# Altium schematic symbol library Schlib1.SchLib: 2 symbols
Pins are listed as number, name and electrical type; pins without a type are passive.

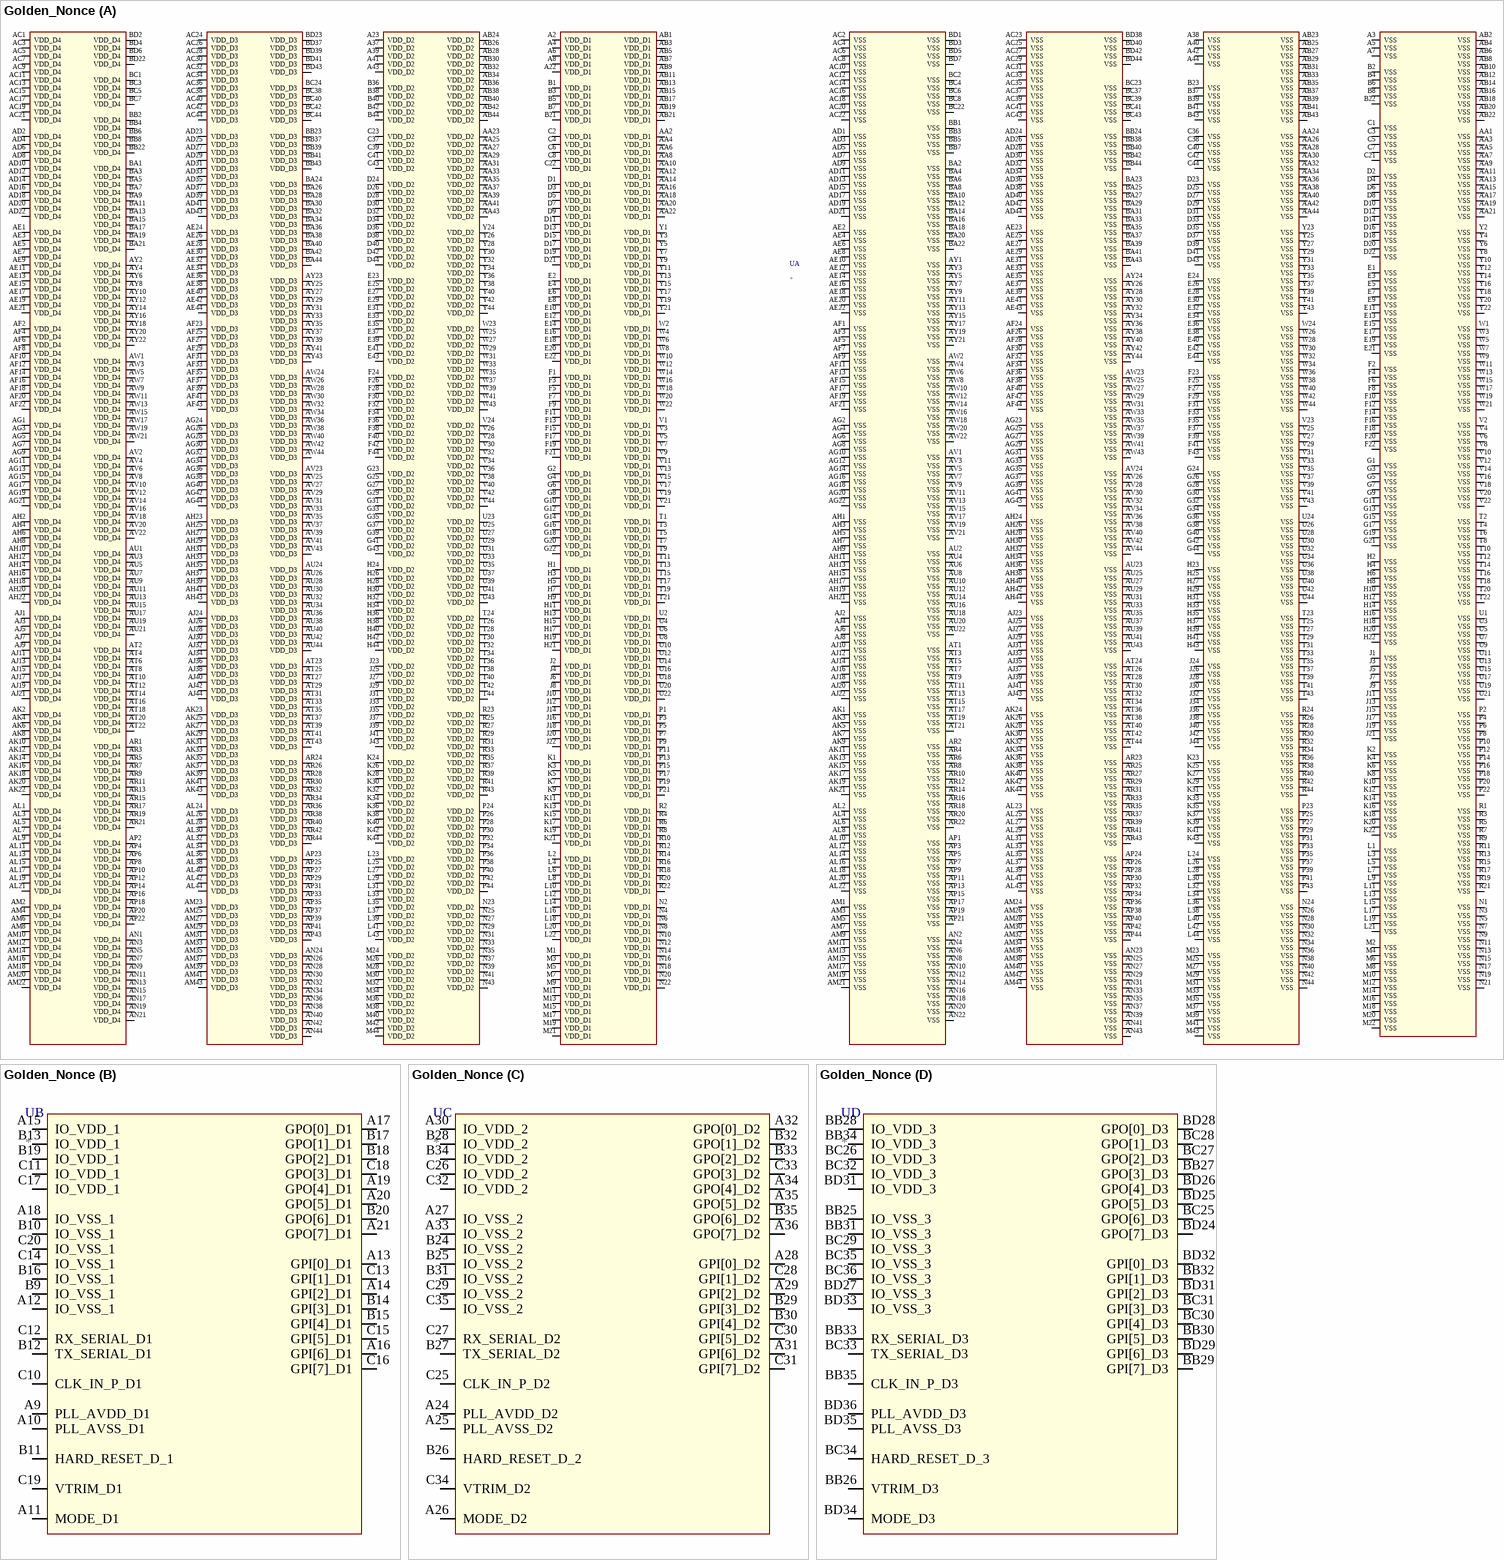
[diagram p0: symbol Golden_Nonce]

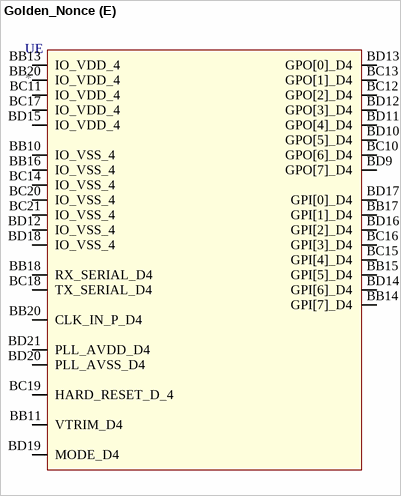
[diagram p1: symbol Golden_Nonce]

## Golden_Nonce
designator U
part A pins: A2 VDD_D1, A3 VSS, A4 VDD_D1, A5 VSS, A6 VDD_D1, A7 VSS, A8 VDD_D1, A22 VDD_D1, A23 VDD_D2, A37 VDD_D2, A38 VSS, A39 VDD_D2, A40 VSS, A41 VDD_D2, A42 VSS, A43 VDD_D2, A44 VSS, AA1 VSS, AA2 VDD_D1, AA3 VSS, AA4 VDD_D1, AA5 VSS, AA6 VDD_D1, AA7 VSS, AA8 VDD_D1, AA9 VSS, AA10 VDD_D1, AA11 VSS, AA12 VDD_D1, AA13 VSS, AA14 VDD_D1, AA15 VSS, AA16 VDD_D1, AA17 VSS, AA18 VDD_D1, AA19 VSS, AA20 VDD_D1, AA21 VSS, AA22 VDD_D1, AA23 VDD_D2, AA24 VSS, AA25 VDD_D2, AA26 VSS, AA27 VDD_D2, AA28 VSS, AA29 VDD_D2, AA30 VSS, AA31 VDD_D2, AA32 VSS, AA33 VDD_D2, AA34 VSS, AA35 VDD_D2, AA36 VSS, AA37 VDD_D2, AA38 VSS, AA39 VDD_D2, AA40 VSS, AA41 VDD_D2, AA42 VSS, AA43 VDD_D2, AA44 VSS, AB1 VDD_D1, AB2 VSS, AB3 VDD_D1, AB4 VSS, AB5 VDD_D1, AB6 VSS, AB7 VDD_D1, AB8 VSS, AB9 VDD_D1, AB10 VSS, AB11 VDD_D1, AB12 VSS, AB13 VDD_D1, AB14 VSS, AB15 VDD_D1, AB16 VSS, AB17 VDD_D1, AB18 VSS, AB19 VDD_D1, AB20 VSS, AB21 VDD_D1, AB22 VSS, AB23 VSS, AB24 VDD_D2, AB25 VSS, AB26 VDD_D2, AB27 VSS, AB28 VDD_D2, AB29 VSS, AB30 VDD_D2, AB31 VSS, AB32 VDD_D2, AB33 VSS, AB34 VDD_D2, AB35 VSS, AB36 VDD_D2, AB37 VSS, AB38 VDD_D2, AB39 VSS, AB40 VDD_D2, AB41 VSS, AB42 VDD_D2, AB43 VSS, AB44 VDD_D2, AC1 VDD_D4, AC2 VSS, AC3 VDD_D4, AC4 VSS, AC5 VDD_D4, AC6 VSS, AC7 VDD_D4, AC8 VSS, AC9 VDD_D4, AC10 VSS, AC11 VDD_D4, AC12 VSS, AC13 VDD_D4, AC14 VSS, AC15 VDD_D4, AC16 VSS, AC17 VDD_D4, AC18 VSS, AC19 VDD_D4, AC20 VSS, AC21 VDD_D4, AC22 VSS, AC23 VSS, AC24 VDD_D3, AC25 VSS, AC26 VDD_D3, AC27 VSS, AC28 VDD_D3, AC29 VSS, AC30 VDD_D3, AC31 VSS, AC32 VDD_D3, AC33 VSS, AC34 VDD_D3, AC35 VSS, AC36 VDD_D3, AC37 VSS, AC38 VDD_D3, AC39 VSS, AC40 VDD_D3, AC41 VSS, AC42 VDD_D3, AC43 VSS, AC44 VDD_D3, AD1 VSS, AD2 VDD_D4, AD3 VSS, AD4 VDD_D4, AD5 VSS, AD6 VDD_D4, AD7 VSS, AD8 VDD_D4, AD9 VSS, AD10 VDD_D4, AD11 VSS, AD12 VDD_D4, AD13 VSS, AD14 VDD_D4, AD15 VSS, AD16 VDD_D4, AD17 VSS, AD18 VDD_D4, AD19 VSS, AD20 VDD_D4, AD21 VSS, AD22 VDD_D4, AD23 VDD_D3, AD24 VSS, AD25 VDD_D3, AD26 VSS, AD27 VDD_D3, AD28 VSS, AD29 VDD_D3, AD30 VSS, AD31 VDD_D3, AD32 VSS, AD33 VDD_D3, AD34 VSS, AD35 VDD_D3, AD36 VSS, AD37 VDD_D3, AD38 VSS, AD39 VDD_D3, AD40 VSS, AD41 VDD_D3, AD42 VSS, AD43 VDD_D3, AD44 VSS, AE1 VDD_D4, AE2 VSS, AE3 VDD_D4, AE4 VSS, AE5 VDD_D4, AE6 VSS, AE7 VDD_D4, AE8 VSS, AE9 VDD_D4, AE10 VSS, AE11 VDD_D4, AE12 VSS, AE13 VDD_D4, AE14 VSS, AE15 VDD_D4, AE16 VSS, AE17 VDD_D4, AE18 VSS, AE19 VDD_D4, AE20 VSS, AE21 VDD_D4, AE22 VSS, AE23 VSS, AE24 VDD_D3, AE25 VSS, AE26 VDD_D3, AE27 VSS, AE28 VDD_D3, AE29 VSS, AE30 VDD_D3, AE31 VSS, AE32 VDD_D3, AE33 VSS, AE34 VDD_D3, AE35 VSS, AE36 VDD_D3, AE37 VSS, AE38 VDD_D3, AE39 VSS, AE40 VDD_D3, AE41 VSS, AE42 VDD_D3, AE43 VSS, AE44 VDD_D3, AF1 VSS, AF2 VDD_D4, AF3 VSS, AF4 VDD_D4, AF5 VSS, AF6 VDD_D4, AF7 VSS, AF8 VDD_D4, AF9 VSS, AF10 VDD_D4, AF11 VSS, AF12 VDD_D4, AF13 VSS, AF14 VDD_D4, AF15 VSS, AF16 VDD_D4, AF17 VSS, AF18 VDD_D4, AF19 VSS, AF20 VDD_D4, AF21 VSS, AF22 VDD_D4, AF23 VDD_D3, AF24 VSS, AF25 VDD_D3, AF26 VSS, AF27 VDD_D3, AF28 VSS, AF29 VDD_D3, AF30 VSS, AF31 VDD_D3, AF32 VSS, AF33 VDD_D3, AF34 VSS, AF35 VDD_D3, AF36 VSS, AF37 VDD_D3, AF38 VSS, AF39 VDD_D3, AF40 VSS, AF41 VDD_D3, AF42 VSS, AF43 VDD_D3, AF44 VSS, AG1 VDD_D4, AG2 VSS, AG3 VDD_D4, AG4 VSS, AG5 VDD_D4, AG6 VSS, AG7 VDD_D4, AG8 VSS, AG9 VDD_D4, AG10 VSS, AG11 VDD_D4, AG12 VSS, AG13 VDD_D4, AG14 VSS, AG15 VDD_D4, AG16 VSS, AG17 VDD_D4, AG18 VSS, AG19 VDD_D4, AG20 VSS, AG21 VDD_D4, AG22 VSS, AG23 VSS, AG24 VDD_D3, AG25 VSS, AG26 VDD_D3, AG27 VSS, AG28 VDD_D3, AG29 VSS, AG30 VDD_D3, AG31 VSS, AG32 VDD_D3, AG33 VSS, AG34 VDD_D3, AG35 VSS, AG36 VDD_D3, AG37 VSS, AG38 VDD_D3, AG39 VSS, AG40 VDD_D3, AG41 VSS, AG42 VDD_D3, AG43 VSS, AG44 VDD_D3, AH1 VSS, AH2 VDD_D4, AH3 VSS, AH4 VDD_D4, AH5 VSS, AH6 VDD_D4, AH7 VSS, AH8 VDD_D4, AH9 VSS, AH10 VDD_D4, AH11 VSS, AH12 VDD_D4, AH13 VSS, AH14 VDD_D4, AH15 VSS, AH16 VDD_D4, AH17 VSS, AH18 VDD_D4, AH19 VSS, AH20 VDD_D4, AH21 VSS, AH22 VDD_D4, AH23 VDD_D3, AH24 VSS, AH25 VDD_D3, AH26 VSS, AH27 VDD_D3, AH28 VSS, AH29 VDD_D3, AH30 VSS, AH31 VDD_D3, AH32 VSS, AH33 VDD_D3, AH34 VSS, AH35 VDD_D3, AH36 VSS, AH37 VDD_D3, AH38 VSS, AH39 VDD_D3, AH40 VSS, AH41 VDD_D3, AH42 VSS, AH43 VDD_D3, AH44 VSS, AJ1 VDD_D4, AJ2 VSS, AJ3 VDD_D4, AJ4 VSS, AJ5 VDD_D4, AJ6 VSS, AJ7 VDD_D4, AJ8 VSS, AJ9 VDD_D4, AJ10 VSS, AJ11 VDD_D4, AJ12 VSS, AJ13 VDD_D4, AJ14 VSS, AJ15 VDD_D4, AJ16 VSS, AJ17 VDD_D4, AJ18 VSS, AJ19 VDD_D4, AJ20 VSS, AJ21 VDD_D4, AJ22 VSS, AJ23 VSS, AJ24 VDD_D3, AJ25 VSS, AJ26 VDD_D3, AJ27 VSS, AJ28 VDD_D3, AJ29 VSS, AJ30 VDD_D3, AJ31 VSS, AJ32 VDD_D3, AJ33 VSS, AJ34 VDD_D3, AJ35 VSS, AJ36 VDD_D3, AJ37 VSS, AJ38 VDD_D3, AJ39 VSS, AJ40 VDD_D3, AJ41 VSS, AJ42 VDD_D3, AJ43 VSS, AJ44 VDD_D3, AK1 VSS, AK2 VDD_D4, AK3 VSS, AK4 VDD_D4, AK5 VSS, AK6 VDD_D4, AK7 VSS, AK8 VDD_D4, AK9 VSS, AK10 VDD_D4, AK11 VSS, AK12 VDD_D4, AK13 VSS, AK14 VDD_D4, AK15 VSS, AK16 VDD_D4, AK17 VSS, AK18 VDD_D4, AK19 VSS, AK20 VDD_D4, AK21 VSS, AK22 VDD_D4, AK23 VDD_D3, AK24 VSS, AK25 VDD_D3, AK26 VSS, AK27 VDD_D3, AK28 VSS, AK29 VDD_D3, AK30 VSS, AK31 VDD_D3, AK32 VSS, AK33 VDD_D3, AK34 VSS, AK35 VDD_D3, AK36 VSS, AK37 VDD_D3, AK38 VSS, AK39 VDD_D3, AK40 VSS, AK41 VDD_D3, AK42 VSS, AK43 VDD_D3, AK44 VSS, AL1 VDD_D4, AL2 VSS, AL3 VDD_D4, AL4 VSS, AL5 VDD_D4, AL6 VSS, AL7 VDD_D4, AL8 VSS, AL9 VDD_D4, AL10 VSS, AL11 VDD_D4, AL12 VSS, AL13 VDD_D4, AL14 VSS, AL15 VDD_D4, AL16 VSS, AL17 VDD_D4, AL18 VSS, AL19 VDD_D4, AL20 VSS, AL21 VDD_D4, AL22 VSS, AL23 VSS, AL24 VDD_D3, AL25 VSS, AL26 VDD_D3, AL27 VSS, AL28 VDD_D3, AL29 VSS, AL30 VDD_D3, AL31 VSS, AL32 VDD_D3, AL33 VSS, AL34 VDD_D3, AL35 VSS, AL36 VDD_D3, AL37 VSS, AL38 VDD_D3, AL39 VSS, AL40 VDD_D3, AL41 VSS, AL42 VDD_D3, AL43 VSS, AL44 VDD_D3, AM1 VSS, AM2 VDD_D4, AM3 VSS, AM4 VDD_D4, AM5 VSS, AM6 VDD_D4, AM7 VSS, AM8 VDD_D4, AM9 VSS, AM10 VDD_D4, AM11 VSS, AM12 VDD_D4, AM13 VSS, AM14 VDD_D4, AM15 VSS, AM16 VDD_D4, AM17 VSS, AM18 VDD_D4, AM19 VSS, AM20 VDD_D4, AM21 VSS, AM22 VDD_D4, AM23 VDD_D3, AM24 VSS, AM25 VDD_D3, AM26 VSS, AM27 VDD_D3, AM28 VSS, AM29 VDD_D3, AM30 VSS, AM31 VDD_D3, AM32 VSS, AM33 VDD_D3, AM34 VSS, AM35 VDD_D3, AM36 VSS, AM37 VDD_D3, AM38 VSS, AM39 VDD_D3, AM40 VSS, AM41 VDD_D3, AM42 VSS, AM43 VDD_D3, AM44 VSS, AN1 VDD_D4, AN2 VSS, AN3 VDD_D4, AN4 VSS, AN5 VDD_D4, AN6 VSS, AN7 VDD_D4, AN8 VSS, AN9 VDD_D4, AN10 VSS, AN11 VDD_D4, AN12 VSS, AN13 VDD_D4, AN14 VSS, AN15 VDD_D4, AN16 VSS, AN17 VDD_D4, AN18 VSS, AN19 VDD_D4, AN20 VSS, AN21 VDD_D4, AN22 VSS, AN23 VSS, AN24 VDD_D3, AN25 VSS, AN26 VDD_D3, AN27 VSS, AN28 VDD_D3, AN29 VSS, AN30 VDD_D3, AN31 VSS, AN32 VDD_D3, AN33 VSS, AN34 VDD_D3, AN35 VSS, AN36 VDD_D3, AN37 VSS, AN38 VDD_D3, AN39 VSS, AN40 VDD_D3, AN41 VSS, AN42 VDD_D3, AN43 VSS, AN44 VDD_D3, AP1 VSS, AP2 VDD_D4, AP3 VSS, AP4 VDD_D4, AP5 VSS, AP6 VDD_D4, AP7 VSS, AP8 VDD_D4, AP9 VSS, AP10 VDD_D4, AP11 VSS, AP12 VDD_D4, AP13 VSS, AP14 VDD_D4, AP15 VSS, AP16 VDD_D4, AP17 VSS, AP18 VDD_D4, AP19 VSS, AP20 VDD_D4, AP21 VSS, AP22 VDD_D4, AP23 VDD_D3, AP24 VSS, AP25 VDD_D3, AP26 VSS, AP27 VDD_D3, AP28 VSS, AP29 VDD_D3, AP30 VSS, AP31 VDD_D3, AP32 VSS, AP33 VDD_D3, AP34 VSS, AP35 VDD_D3, AP36 VSS, AP37 VDD_D3, AP38 VSS, AP39 VDD_D3, AP40 VSS, AP41 VDD_D3, AP42 VSS, AP43 VDD_D3, AP44 VSS, AR1 VDD_D4, AR2 VSS, AR3 VDD_D4, AR4 VSS, AR5 VDD_D4, AR6 VSS, AR7 VDD_D4, AR8 VSS, AR9 VDD_D4, AR10 VSS, AR11 VDD_D4, AR12 VSS, AR13 VDD_D4, AR14 VSS, AR15 VDD_D4, AR16 VSS, AR17 VDD_D4, AR18 VSS, AR19 VDD_D4, AR20 VSS, AR21 VDD_D4, AR22 VSS, AR23 VSS, AR24 VDD_D3, AR25 VSS, AR26 VDD_D3, AR27 VSS, AR28 VDD_D3, AR29 VSS, AR30 VDD_D3, AR31 VSS, AR32 VDD_D3, AR33 VSS, AR34 VDD_D3, AR35 VSS, AR36 VDD_D3, AR37 VSS, AR38 VDD_D3, AR39 VSS, AR40 VDD_D3, AR41 VSS, AR42 VDD_D3, AR43 VSS, AR44 VDD_D3, AT1 VSS, AT2 VDD_D4, AT3 VSS, AT4 VDD_D4, AT5 VSS, AT6 VDD_D4, AT7 VSS, AT8 VDD_D4, AT9 VSS, AT10 VDD_D4, AT11 VSS, AT12 VDD_D4, AT13 VSS, AT14 VDD_D4, AT15 VSS, AT16 VDD_D4, AT17 VSS, AT18 VDD_D4, AT19 VSS, AT20 VDD_D4, AT21 VSS, AT22 VDD_D4, AT23 VDD_D3, AT24 VSS, AT25 VDD_D3, AT26 VSS, AT27 VDD_D3, AT28 VSS, AT29 VDD_D3, AT30 VSS, AT31 VDD_D3, AT32 VSS, AT33 VDD_D3, AT34 VSS, AT35 VDD_D3, AT36 VSS, AT37 VDD_D3, AT38 VSS, AT39 VDD_D3, AT40 VSS, AT41 VDD_D3, AT42 VSS, AT43 VDD_D3, AT44 VSS, AU1 VDD_D4, AU2 VSS, AU3 VDD_D4, AU4 VSS, AU5 VDD_D4, AU6 VSS, AU7 VDD_D4, AU8 VSS, AU9 VDD_D4, AU10 VSS, AU11 VDD_D4, AU12 VSS, AU13 VDD_D4, AU14 VSS, AU15 VDD_D4, AU16 VSS, AU17 VDD_D4, AU18 VSS, AU19 VDD_D4, AU20 VSS, AU21 VDD_D4, AU22 VSS, AU23 VSS, AU24 VDD_D3, AU25 VSS, AU26 VDD_D3, AU27 VSS, AU28 VDD_D3, AU29 VSS, AU30 VDD_D3, AU31 VSS, AU32 VDD_D3, AU33 VSS, AU34 VDD_D3, AU35 VSS, AU36 VDD_D3, AU37 VSS, AU38 VDD_D3, AU39 VSS, AU40 VDD_D3, AU41 VSS, AU42 VDD_D3, AU43 VSS, AU44 VDD_D3, AV1 VSS, AV2 VDD_D4, AV3 VSS, AV4 VDD_D4, AV5 VSS, AV6 VDD_D4, AV7 VSS, AV8 VDD_D4, AV9 VSS, AV10 VDD_D4, AV11 VSS, AV12 VDD_D4, AV13 VSS, AV14 VDD_D4, AV15 VSS, AV16 VDD_D4, AV17 VSS, AV18 VDD_D4, AV19 VSS, AV20 VDD_D4, AV21 VSS, AV22 VDD_D4, AV23 VDD_D3, AV24 VSS, AV25 VDD_D3, AV26 VSS, AV27 VDD_D3, AV28 VSS, AV29 VDD_D3, AV30 VSS, AV31 VDD_D3, AV32 VSS, AV33 VDD_D3, AV34 VSS, AV35 VDD_D3, AV36 VSS, AV37 VDD_D3, AV38 VSS, AV39 VDD_D3, AV40 VSS, AV41 VDD_D3, AV42 VSS, AV43 VDD_D3, AV44 VSS, AW1 VDD_D4, AW2 VSS, AW3 VDD_D4, AW4 VSS, AW5 VDD_D4, AW6 VSS, AW7 VDD_D4, AW8 VSS, AW9 VDD_D4, AW10 VSS, AW11 VDD_D4, AW12 VSS, AW13 VDD_D4, AW14 VSS, AW15 VDD_D4, AW16 VSS, AW17 VDD_D4, AW18 VSS, AW19 VDD_D4, AW20 VSS, AW21 VDD_D4, AW22 VSS, AW23 VSS, AW24 VDD_D3, AW25 VSS, AW26 VDD_D3, AW27 VSS, AW28 VDD_D3, AW29 VSS, AW30 VDD_D3, AW31 VSS, AW32 VDD_D3, AW33 VSS, AW34 VDD_D3, AW35 VSS, AW36 VDD_D3, AW37 VSS, AW38 VDD_D3, AW39 VSS, AW40 VDD_D3, AW41 VSS, AW42 VDD_D3, AW43 VSS, AW44 VDD_D3, AY1 VSS, AY2 VDD_D4, AY3 VSS, AY4 VDD_D4, AY5 VSS, AY6 VDD_D4, AY7 VSS, AY8 VDD_D4, AY9 VSS, AY10 VDD_D4, AY11 VSS, AY12 VDD_D4, AY13 VSS, AY14 VDD_D4, AY15 VSS, AY16 VDD_D4, AY17 VSS, AY18 VDD_D4, AY19 VSS, AY20 VDD_D4, AY21 VSS, AY22 VDD_D4, AY23 VDD_D3, AY24 VSS, AY25 VDD_D3, AY26 VSS, AY27 VDD_D3, AY28 VSS, AY29 VDD_D3, AY30 VSS, AY31 VDD_D3, AY32 VSS, AY33 VDD_D3, AY34 VSS, AY35 VDD_D3, AY36 VSS, AY37 VDD_D3, AY38 VSS, AY39 VDD_D3, AY40 VSS, AY41 VDD_D3, AY42 VSS, AY43 VDD_D3, AY44 VSS, B1 VDD_D1, B2 VSS, B3 VDD_D1, B4 VSS, B5 VDD_D1, B6 VSS, B7 VDD_D1, B8 VSS, B21 VDD_D1, B22 VSS, B23 VSS, B36 VDD_D2, B37 VSS, B38 VDD_D2, B39 VSS, B40 VDD_D2, B41 VSS, B42 VDD_D2, B43 VSS, B44 VDD_D2, BA1 VDD_D4, BA2 VSS, BA3 VDD_D4, BA4 VSS, BA5 VDD_D4, BA6 VSS, BA7 VDD_D4, BA8 VSS, BA9 VDD_D4, BA10 VSS, BA11 VDD_D4, BA12 VSS, BA13 VDD_D4, BA14 VSS, BA15 VDD_D4, BA16 VSS, BA17 VDD_D4, BA18 VSS, BA19 VDD_D4, BA20 VSS, BA21 VDD_D4, BA22 VSS, BA23 VSS, BA24 VDD_D3, BA25 VSS, BA26 VDD_D3, BA27 VSS, BA28 VDD_D3, BA29 VSS, BA30 VDD_D3, BA31 VSS, BA32 VDD_D3, BA33 VSS, BA34 VDD_D3, BA35 VSS, BA36 VDD_D3, BA37 VSS, BA38 VDD_D3, BA39 VSS, BA40 VDD_D3, BA41 VSS, BA42 VDD_D3, BA43 VSS, BA44 VDD_D3, BB1 VSS, BB2 VDD_D4, BB3 VSS, BB4 VDD_D4, BB5 VSS, BB6 VDD_D4, BB7 VSS, BB8 VDD_D4, BB22 VDD_D4, BB23 VDD_D3, BB24 VSS, BB37 VDD_D3, BB38 VSS, BB39 VDD_D3, BB40 VSS, BB41 VDD_D3, BB42 VSS, BB43 VDD_D3, BB44 VSS, BC1 VDD_D4, BC2 VSS, BC3 VDD_D4, BC4 VSS, BC5 VDD_D4, BC6 VSS, BC7 VDD_D4, BC8 VSS, BC22 VSS, BC23 VSS, BC24 VDD_D3, BC37 VSS, BC38 VDD_D3, BC39 VSS, BC40 VDD_D3, BC41 VSS, BC42 VDD_D3, BC43 VSS, BC44 VDD_D3, BD1 VSS, BD2 VDD_D4, BD3 VSS, BD4 VDD_D4, BD5 VSS, BD6 VDD_D4, BD7 VSS, BD22 VDD_D4, BD23 VDD_D3, BD37 VDD_D3, BD38 VSS, BD39 VDD_D3, BD40 VSS, BD41 VDD_D3, BD42 VSS, BD43 VDD_D3, BD44 VSS, C1 VSS, C2 VDD_D1, C3 VSS, C4 VDD_D1, C5 VSS, C6 VDD_D1, C7 VSS, C8 VDD_D1, C21 VSS, C22 VDD_D1, C23 VDD_D2, C36 VSS, C37 VDD_D2, C38 VSS, C39 VDD_D2, C40 VSS, C41 VDD_D2, C42 VSS, C43 VDD_D2, C44 VSS, D1 VDD_D1, D2 VSS, D3 VDD_D1, D4 VSS, D5 VDD_D1, D6 VSS, D7 VDD_D1, D8 VSS, D9 VDD_D1, D10 VSS, D11 VDD_D1, D12 VSS, D13 VDD_D1, D14 VSS, D15 VDD_D1, D16 VSS, D17 VDD_D1, D18 VSS, D19 VDD_D1, D20 VSS, D21 VDD_D1, D22 VSS, D23 VSS, D24 VDD_D2, D25 VSS, D26 VDD_D2, D27 VSS, D28 VDD_D2, D29 VSS, D30 VDD_D2, D31 VSS, D32 VDD_D2, D33 VSS, D34 VDD_D2, D35 VSS, D36 VDD_D2, D37 VSS, D38 VDD_D2, D39 VSS, D40 VDD_D2, D41 VSS, D42 VDD_D2, D43 VSS, D44 VDD_D2, E1 VSS, E2 VDD_D1, E3 VSS, E4 VDD_D1, E5 VSS, E6 VDD_D1, E7 VSS, E8 VDD_D1, E9 VSS, E10 VDD_D1, E11 VSS, E12 VDD_D1, E13 VSS, E14 VDD_D1, E15 VSS, E16 VDD_D1, E17 VSS, E18 VDD_D1, E19 VSS, E20 VDD_D1, E21 VSS, E22 VDD_D1, E23 VDD_D2, E24 VSS, E25 VDD_D2, E26 VSS, E27 VDD_D2, E28 VSS, E29 VDD_D2, E30 VSS, E31 VDD_D2, E32 VSS, E33 VDD_D2, E34 VSS, E35 VDD_D2, E36 VSS, E37 VDD_D2, E38 VSS, E39 VDD_D2, E40 VSS, E41 VDD_D2, E42 VSS, E43 VDD_D2, E44 VSS, F1 VDD_D1, F2 VSS, F3 VDD_D1, F4 VSS, F5 VDD_D1, F6 VSS, F7 VDD_D1, F8 VSS, F9 VDD_D1, F10 VSS, F11 VDD_D1, F12 VSS, F13 VDD_D1, F14 VSS, F15 VDD_D1, F16 VSS, F17 VDD_D1, F18 VSS, F19 VDD_D1, F20 VSS, F21 VDD_D1, F22 VSS, F23 VSS, F24 VDD_D2, F25 VSS, F26 VDD_D2, F27 VSS, F28 VDD_D2, F29 VSS, F30 VDD_D2, F31 VSS, F32 VDD_D2, F33 VSS, F34 VDD_D2, F35 VSS, F36 VDD_D2, F37 VSS, F38 VDD_D2, F39 VSS, F40 VDD_D2, F41 VSS, F42 VDD_D2, F43 VSS, F44 VDD_D2, G1 VSS, G2 VDD_D1, G3 VSS, G4 VDD_D1, G5 VSS, G6 VDD_D1, G7 VSS, G8 VDD_D1, G9 VSS, G10 VDD_D1, G11 VSS, G12 VDD_D1, G13 VSS, G14 VDD_D1, G15 VSS, G16 VDD_D1, G17 VSS, G18 VDD_D1, G19 VSS, G20 VDD_D1, G21 VSS, G22 VDD_D1, G23 VDD_D2, G24 VSS, G25 VDD_D2, G26 VSS, G27 VDD_D2, G28 VSS, G29 VDD_D2, G30 VSS, G31 VDD_D2, G32 VSS, G33 VDD_D2, G34 VSS, G35 VDD_D2, G36 VSS, G37 VDD_D2, G38 VSS, G39 VDD_D2, G40 VSS, G41 VDD_D2, G42 VSS, G43 VDD_D2, G44 VSS, H1 VDD_D1, H2 VSS, H3 VDD_D1, H4 VSS, H5 VDD_D1, H6 VSS, H7 VDD_D1, H8 VSS, H9 VDD_D1, H10 VSS, H11 VDD_D1, H12 VSS, H13 VDD_D1, H14 VSS, H15 VDD_D1, H16 VSS, H17 VDD_D1, H18 VSS, H19 VDD_D1, H20 VSS, H21 VDD_D1, H22 VSS, H23 VSS, H24 VDD_D2, H25 VSS, H26 VDD_D2, H27 VSS, H28 VDD_D2, H29 VSS, H30 VDD_D2, H31 VSS, H32 VDD_D2, H33 VSS, H34 VDD_D2, H35 VSS, H36 VDD_D2, H37 VSS, H38 VDD_D2, H39 VSS, H40 VDD_D2, H41 VSS, H42 VDD_D2, H43 VSS, H44 VDD_D2, J1 VSS, J2 VDD_D1, J3 VSS, J4 VDD_D1, J5 VSS, J6 VDD_D1, J7 VSS, J8 VDD_D1, J9 VSS, J10 VDD_D1, J11 VSS, J12 VDD_D1, J13 VSS, J14 VDD_D1, J15 VSS, J16 VDD_D1, J17 VSS, J18 VDD_D1, J19 VSS, J20 VDD_D1, J21 VSS, J22 VDD_D1, J23 VDD_D2, J24 VSS, J25 VDD_D2, J26 VSS, J27 VDD_D2, J28 VSS, J29 VDD_D2, J30 VSS, J31 VDD_D2, J32 VSS, J33 VDD_D2, J34 VSS, J35 VDD_D2, J36 VSS, J37 VDD_D2, J38 VSS, J39 VDD_D2, J40 VSS, J41 VDD_D2, J42 VSS, J43 VDD_D2, J44 VSS, K1 VDD_D1, K2 VSS, K3 VDD_D1, K4 VSS, K5 VDD_D1, K6 VSS, K7 VDD_D1, K8 VSS, K9 VDD_D1, K10 VSS, K11 VDD_D1, K12 VSS, K13 VDD_D1, K14 VSS, K15 VDD_D1, K16 VSS, K17 VDD_D1, K18 VSS, K19 VDD_D1, K20 VSS, K21 VDD_D1, K22 VSS, K23 VSS, K24 VDD_D2, K25 VSS, K26 VDD_D2, K27 VSS, K28 VDD_D2, K29 VSS, K30 VDD_D2, K31 VSS, K32 VDD_D2, K33 VSS, K34 VDD_D2, K35 VSS, K36 VDD_D2, K37 VSS, K38 VDD_D2, K39 VSS, K40 VDD_D2, K41 VSS, K42 VDD_D2, K43 VSS, K44 VDD_D2, L1 VSS, L2 VDD_D1, L3 VSS, L4 VDD_D1, L5 VSS, L6 VDD_D1, L7 VSS, L8 VDD_D1, L9 VSS, L10 VDD_D1, L11 VSS, L12 VDD_D1, L13 VSS, L14 VDD_D1, L15 VSS, L16 VDD_D1, L17 VSS, L18 VDD_D1, L19 VSS, L20 VDD_D1, L21 VSS, L22 VDD_D1, L23 VDD_D2, L24 VSS, L25 VDD_D2, L26 VSS, L27 VDD_D2, L28 VSS, L29 VDD_D2, L30 VSS, L31 VDD_D2, L32 VSS, L33 VDD_D2, L34 VSS, L35 VDD_D2, L36 VSS, L37 VDD_D2, L38 VSS, L39 VDD_D2, L40 VSS, L41 VDD_D2, L42 VSS, L43 VDD_D2, L44 VSS, M1 VDD_D1, M2 VSS, M3 VDD_D1, M4 VSS, M5 VDD_D1, M6 VSS, M7 VDD_D1, M8 VSS, M9 VDD_D1, M10 VSS, M11 VDD_D1, M12 VSS, M13 VDD_D1, M14 VSS, M15 VDD_D1, M16 VSS, M17 VDD_D1, M18 VSS, M19 VDD_D1, M20 VSS, M21 VDD_D1, M22 VSS, M23 VSS, M24 VDD_D2, M25 VSS, M26 VDD_D2, M27 VSS, M28 VDD_D2, M29 VSS, M30 VDD_D2, M31 VSS, M32 VDD_D2, M33 VSS, M34 VDD_D2, M35 VSS, M36 VDD_D2, M37 VSS, M38 VDD_D2, M39 VSS, M40 VDD_D2, M41 VSS, M42 VDD_D2, M43 VSS, M44 VDD_D2, N1 VSS, N2 VDD_D1, N3 VSS, N4 VDD_D1, N5 VSS, N6 VDD_D1, N7 VSS, N8 VDD_D1, N9 VSS, N10 VDD_D1, N11 VSS, N12 VDD_D1, N13 VSS, N14 VDD_D1, N15 VSS, N16 VDD_D1, N17 VSS, N18 VDD_D1, N19 VSS, N20 VDD_D1, N21 VSS, N22 VDD_D1, N23 VDD_D2, N24 VSS, N25 VDD_D2, N26 VSS, N27 VDD_D2, N28 VSS, N29 VDD_D2, N30 VSS, N31 VDD_D2, N32 VSS, N33 VDD_D2, N34 VSS, N35 VDD_D2, N36 VSS, N37 VDD_D2, N38 VSS, N39 VDD_D2, N40 VSS, N41 VDD_D2, N42 VSS, N43 VDD_D2, N44 VSS, P1 VDD_D1, P2 VSS, P3 VDD_D1, P4 VSS, P5 VDD_D1, P6 VSS, P7 VDD_D1, P8 VSS, P9 VDD_D1, P10 VSS, P11 VDD_D1, P12 VSS, P13 VDD_D1, P14 VSS, P15 VDD_D1, P16 VSS, P17 VDD_D1, P18 VSS, P19 VDD_D1, P20 VSS, P21 VDD_D1, P22 VSS, P23 VSS, P24 VDD_D2, P25 VSS, P26 VDD_D2, P27 VSS, P28 VDD_D2, P29 VSS, P30 VDD_D2, P31 VSS, P32 VDD_D2, P33 VSS, P34 VDD_D2, P35 VSS, P36 VDD_D2, P37 VSS, P38 VDD_D2, P39 VSS, P40 VDD_D2, P41 VSS, P42 VDD_D2, P43 VSS, P44 VDD_D2, R1 VSS, R2 VDD_D1, R3 VSS, R4 VDD_D1, R5 VSS, R6 VDD_D1, R7 VSS, R8 VDD_D1, R9 VSS, R10 VDD_D1, R11 VSS, R12 VDD_D1, R13 VSS, R14 VDD_D1, R15 VSS, R16 VDD_D1, R17 VSS, R18 VDD_D1, R19 VSS, R20 VDD_D1, R21 VSS, R22 VDD_D1, R23 VDD_D2, R24 VSS, R25 VDD_D2, R26 VSS, R27 VDD_D2, R28 VSS, R29 VDD_D2, R30 VSS, R31 VDD_D2, R32 VSS, R33 VDD_D2, R34 VSS, R35 VDD_D2, R36 VSS, R37 VDD_D2, R38 VSS, R39 VDD_D2, R40 VSS, R41 VDD_D2, R42 VSS, R43 VDD_D2, R44 VSS, T1 VDD_D1, T2 VSS, T3 VDD_D1, T4 VSS, T5 VDD_D1, T6 VSS, T7 VDD_D1, T8 VSS, T9 VDD_D1, T10 VSS, T11 VDD_D1, T12 VSS, T13 VDD_D1, T14 VSS, T15 VDD_D1, T16 VSS, T17 VDD_D1, T18 VSS, T19 VDD_D1, T20 VSS, T21 VDD_D1, T22 VSS, T23 VSS, T24 VDD_D2, T25 VSS, T26 VDD_D2, T27 VSS, T28 VDD_D2, T29 VSS, T30 VDD_D2, T31 VSS, T32 VDD_D2, T33 VSS, T34 VDD_D2, T35 VSS, T36 VDD_D2, T37 VSS, T38 VDD_D2, T39 VSS, T40 VDD_D2, T41 VSS, T42 VDD_D2, T43 VSS, T44 VDD_D2, U1 VSS, U2 VDD_D1, U3 VSS, U4 VDD_D1, U5 VSS, U6 VDD_D1, U7 VSS, U8 VDD_D1, U9 VSS, U10 VDD_D1, U11 VSS, U12 VDD_D1, U13 VSS, U14 VDD_D1, U15 VSS, U16 VDD_D1, U17 VSS, U18 VDD_D1, U19 VSS, U20 VDD_D1, U21 VSS, U22 VDD_D1, U23 VDD_D2, U24 VSS, U25 VDD_D2, U26 VSS, U27 VDD_D2, U28 VSS, U29 VDD_D2, U30 VSS, U31 VDD_D2, U32 VSS, U33 VDD_D2, U34 VSS, U35 VDD_D2, U36 VSS, U37 VDD_D2, U38 VSS, U39 VDD_D2, U40 VSS, U41 VDD_D2, U42 VSS, U43 VDD_D2, U44 VSS, V1 VDD_D1, V2 VSS, V3 VDD_D1, V4 VSS, V5 VDD_D1, V6 VSS, V7 VDD_D1, V8 VSS, V9 VDD_D1, V10 VSS, V11 VDD_D1, V12 VSS, V13 VDD_D1, V14 VSS, V15 VDD_D1, V16 VSS, V17 VDD_D1, V18 VSS, V19 VDD_D1, V20 VSS, V21 VDD_D1, V22 VSS, V23 VSS, V24 VDD_D2, V25 VSS, V26 VDD_D2, V27 VSS, V28 VDD_D2, V29 VSS, V30 VDD_D2, V31 VSS, V32 VDD_D2, V33 VSS, V34 VDD_D2, V35 VSS, V36 VDD_D2, V37 VSS, V38 VDD_D2, V39 VSS, V40 VDD_D2, V41 VSS, V42 VDD_D2, V43 VSS, V44 VDD_D2, W1 VSS, W2 VDD_D1, W3 VSS, W4 VDD_D1, W5 VSS, W6 VDD_D1, W7 VSS, W8 VDD_D1, W9 VSS, W10 VDD_D1, W11 VSS, W12 VDD_D1, W13 VSS, W14 VDD_D1, W15 VSS, W16 VDD_D1, W17 VSS, W18 VDD_D1, W19 VSS, W20 VDD_D1, W21 VSS, W22 VDD_D1, W23 VDD_D2, W24 VSS, W25 VDD_D2, W26 VSS, W27 VDD_D2, W28 VSS, W29 VDD_D2, W30 VSS, W31 VDD_D2, W32 VSS, W33 VDD_D2, W34 VSS, W35 VDD_D2, W36 VSS, W37 VDD_D2, W38 VSS, W39 VDD_D2, W40 VSS, W41 VDD_D2, W42 VSS, W43 VDD_D2, W44 VSS, Y1 VDD_D1, Y2 VSS, Y3 VDD_D1, Y4 VSS, Y5 VDD_D1, Y6 VSS, Y7 VDD_D1, Y8 VSS, Y9 VDD_D1, Y10 VSS, Y11 VDD_D1, Y12 VSS, Y13 VDD_D1, Y14 VSS, Y15 VDD_D1, Y16 VSS, Y17 VDD_D1, Y18 VSS, Y19 VDD_D1, Y20 VSS, Y21 VDD_D1, Y22 VSS, Y23 VSS, Y24 VDD_D2, Y25 VSS, Y26 VDD_D2, Y27 VSS, Y28 VDD_D2, Y29 VSS, Y30 VDD_D2, Y31 VSS, Y32 VDD_D2, Y33 VSS, Y34 VDD_D2, Y35 VSS, Y36 VDD_D2, Y37 VSS, Y38 VDD_D2, Y39 VSS, Y40 VDD_D2, Y41 VSS, Y42 VDD_D2, Y43 VSS, Y44 VDD_D2
part B pins: A9 PLL_AVDD_D1, A10 PLL_AVSS_D1, A11 MODE_D1, A12 IO_VSS_1, A13 GPI[0]_D1, A14 GPI[2]_D1, A15 IO_VDD_1, A16 GPI[6]_D1, A17 GPO[0]_D1, A18 IO_VSS_1, A19 GPO[4]_D1, A20 GPO[5]_D1, A21 GPO[7]_D1, B9 IO_VSS_1, B10 IO_VSS_1, B11 HARD_RESET_D_1, B12 TX_SERIAL_D1, B13 IO_VDD_1, B14 GPI[3]_D1, B15 GPI[4]_D1, B16 IO_VSS_1, B17 GPO[1]_D1, B18 GPO[2]_D1, B19 IO_VDD_1, B20 GPO[6]_D1, C10 CLK_IN_P_D1, C11 IO_VDD_1, C12 RX_SERIAL_D1, C13 GPI[1]_D1, C14 IO_VSS_1, C15 GPI[5]_D1, C16 GPI[7]_D1, C17 IO_VDD_1, C18 GPO[3]_D1, C19 VTRIM_D1, C20 IO_VSS_1
part C pins: A24 PLL_AVDD_D2, A25 PLL_AVSS_D2, A26 MODE_D2, A27 IO_VSS_2, A28 GPI[0]_D2, A29 GPI[2]_D2, A30 IO_VDD_2, A31 GPI[6]_D2, A32 GPO[0]_D2, A33 IO_VSS_2, A34 GPO[4]_D2, A35 GPO[5]_D2, A36 GPO[7]_D2, B24 IO_VSS_2, B25 IO_VSS_2, B26 HARD_RESET_D_2, B27 TX_SERIAL_D2, B28 IO_VDD_2, B29 GPI[3]_D2, B30 GPI[4]_D2, B31 IO_VSS_2, B32 GPO[1]_D2, B33 GPO[2]_D2, B34 IO_VDD_2, B35 GPO[6]_D2, C25 CLK_IN_P_D2, C26 IO_VDD_2, C27 RX_SERIAL_D2, C28 GPI[1]_D2, C29 IO_VSS_2, C30 GPI[5]_D2, C31 GPI[7]_D2, C32 IO_VDD_2, C33 GPO[3]_D2, C34 VTRIM_D2, C35 IO_VSS_2
part D pins: BB25 IO_VSS_3, BB26 VTRIM_D3, BB27 GPO[3]_D3, BB28 IO_VDD_3, BB29 GPI[7]_D3, BB30 GPI[5]_D3, BB31 IO_VSS_3, BB32 GPI[1]_D3, BB33 RX_SERIAL_D3, BB34 IO_VDD_3, BB35 CLK_IN_P_D3, BC25 GPO[6]_D3, BC26 IO_VDD_3, BC27 GPO[2]_D3, BC28 GPO[1]_D3, BC29 IO_VSS_3, BC30 GPI[4]_D3, BC31 GPI[3]_D3, BC32 IO_VDD_3, BC33 TX_SERIAL_D3, BC34 HARD_RESET_D_3, BC35 IO_VSS_3, BC36 IO_VSS_3, BD24 GPO[7]_D3, BD25 GPO[5]_D3, BD26 GPO[4]_D3, BD27 IO_VSS_3, BD28 GPO[0]_D3, BD29 GPI[6]_D3, BD31 IO_VDD_3, BD31 GPI[2]_D3, BD32 GPI[0]_D3, BD33 IO_VSS_3, BD34 MODE_D3, BD35 PLL_AVSS_D3, BD36 PLL_AVDD_D3
part E pins: BB10 IO_VSS_4, BB11 VTRIM_D4, BB13 IO_VDD_4, BB14 GPI[7]_D4, BB15 GPI[5]_D4, BB16 IO_VSS_4, BB17 GPI[1]_D4, BB18 RX_SERIAL_D4, BB20 IO_VDD_4, BB20 CLK_IN_P_D4, BC10 GPO[6]_D4, BC11 IO_VDD_4, BC12 GPO[2]_D4, BC13 GPO[1]_D4, BC14 IO_VSS_4, BC15 GPI[4]_D4, BC16 GPI[3]_D4, BC17 IO_VDD_4, BC18 TX_SERIAL_D4, BC19 HARD_RESET_D_4, BC20 IO_VSS_4, BC21 IO_VSS_4, BD9 GPO[7]_D4, BD10 GPO[5]_D4, BD11 GPO[4]_D4, BD12 IO_VSS_4, BD12 GPO[3]_D4, BD13 GPO[0]_D4, BD14 GPI[6]_D4, BD15 IO_VDD_4, BD16 GPI[2]_D4, BD17 GPI[0]_D4, BD18 IO_VSS_4, BD19 MODE_D4, BD20 PLL_AVSS_D4, BD21 PLL_AVDD_D4

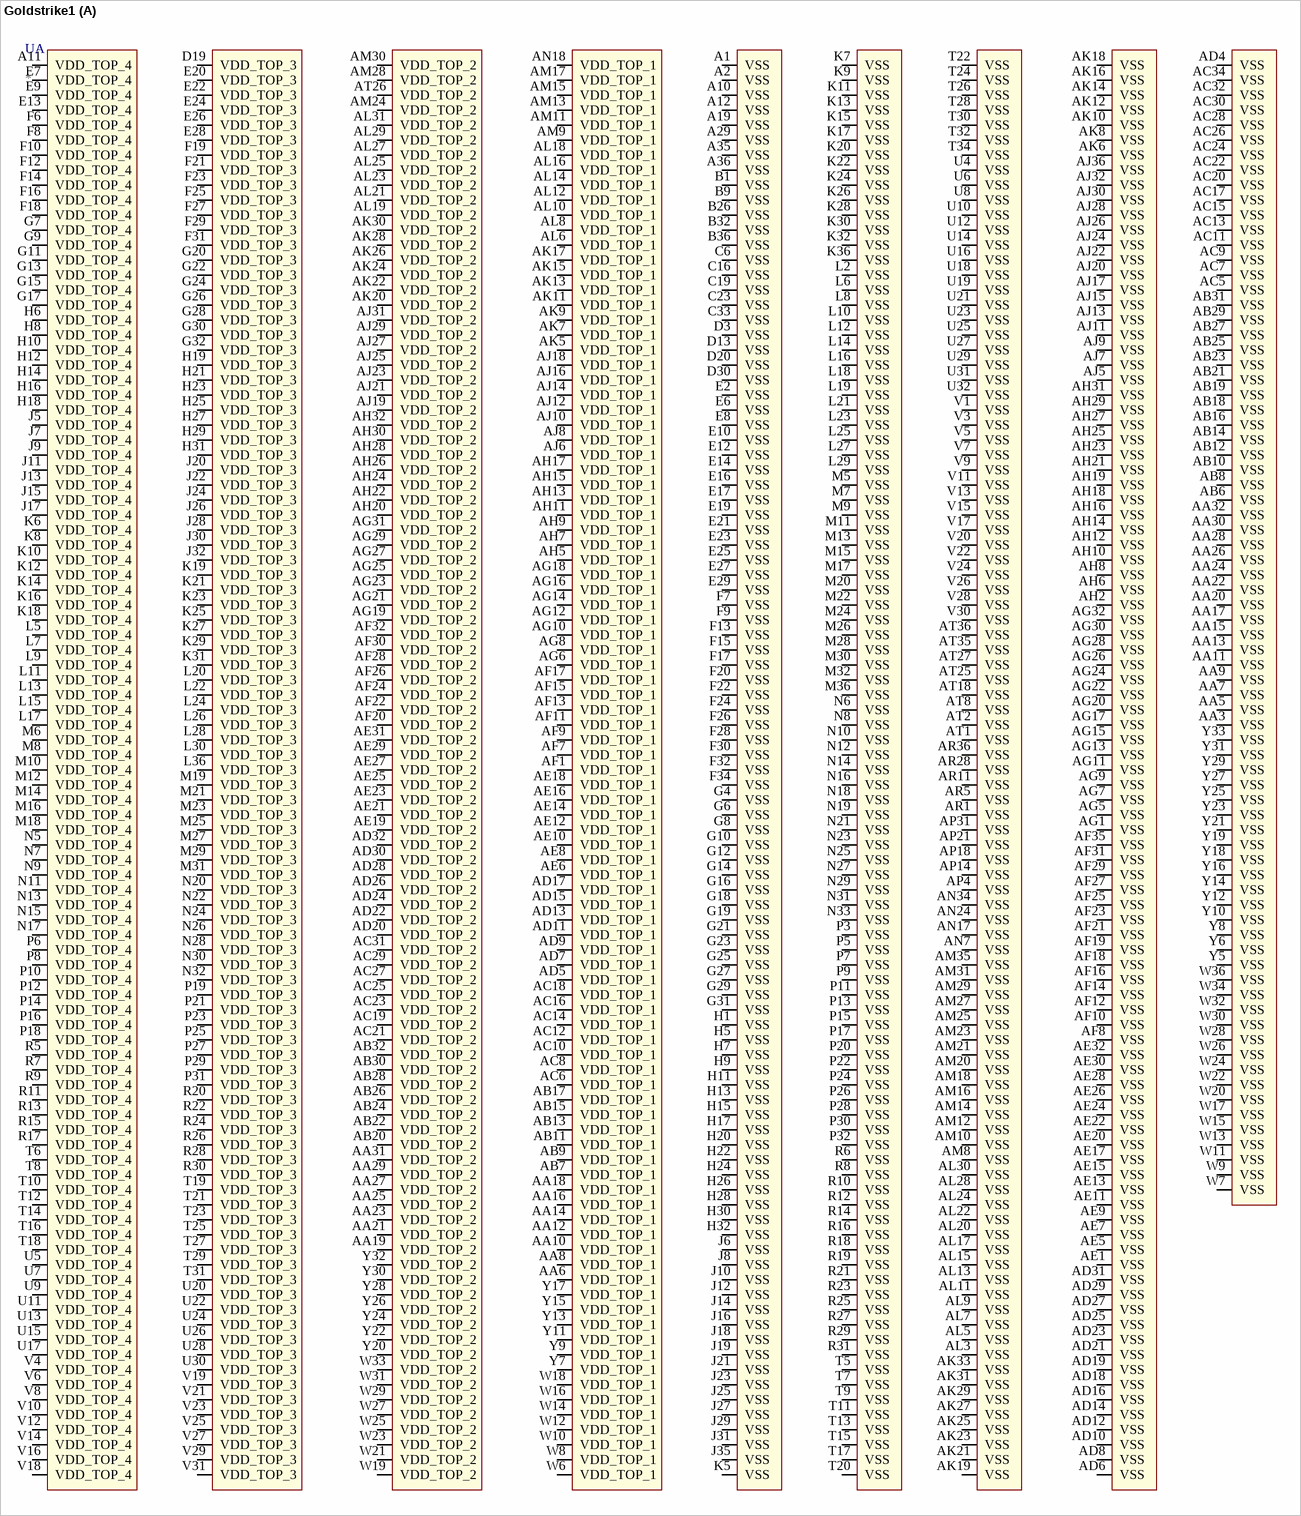
[diagram p2: symbol Goldstrike1]

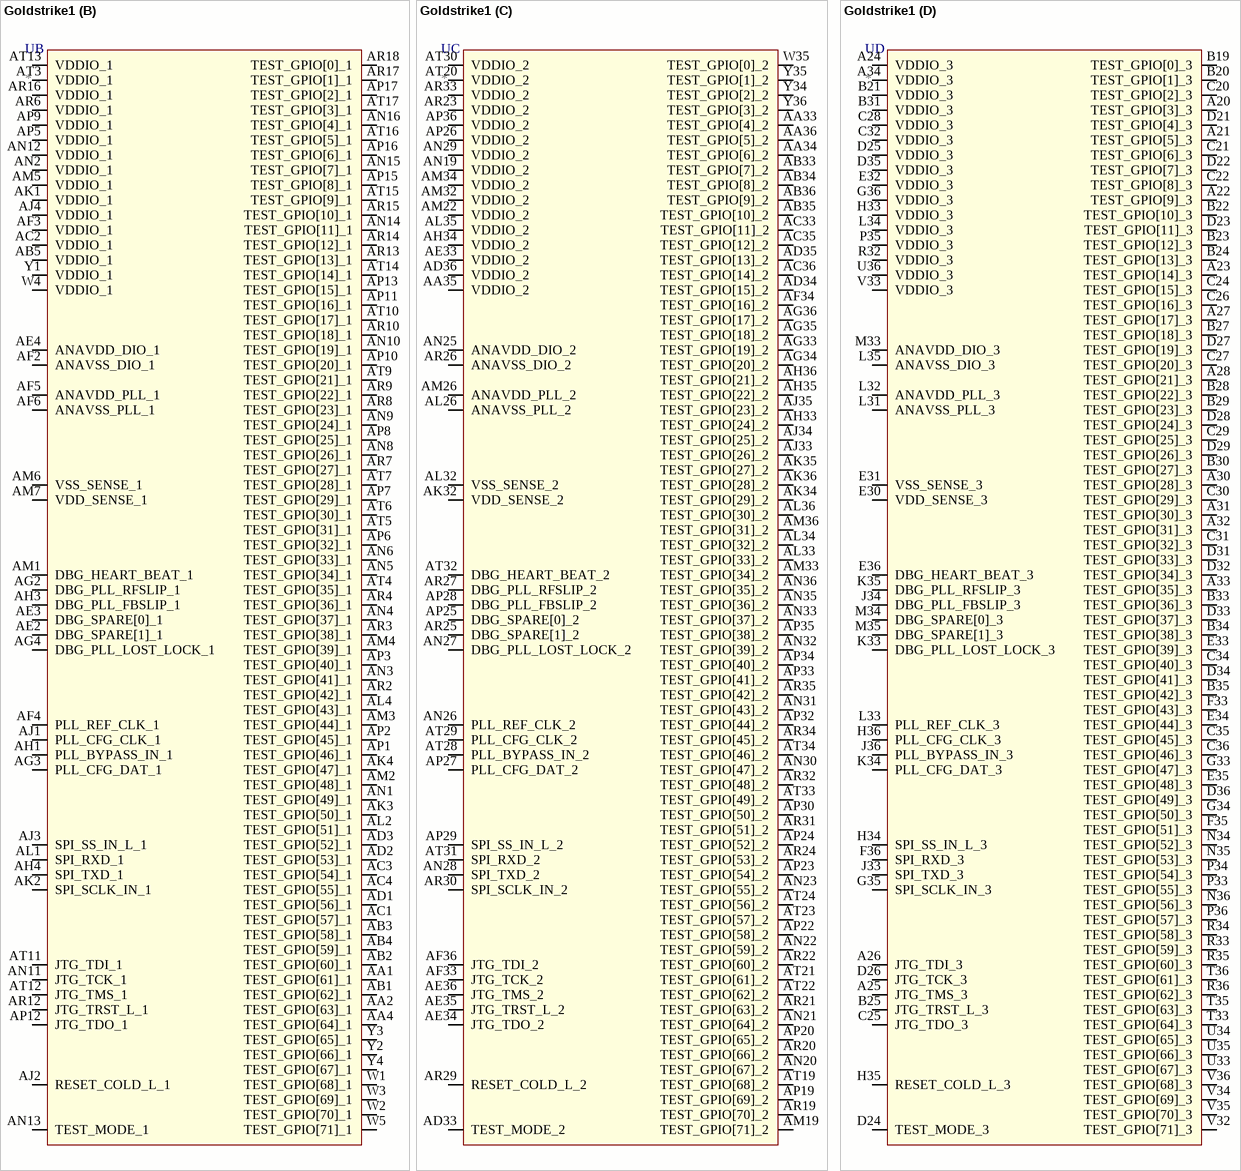
[diagram p3: symbol Goldstrike1]

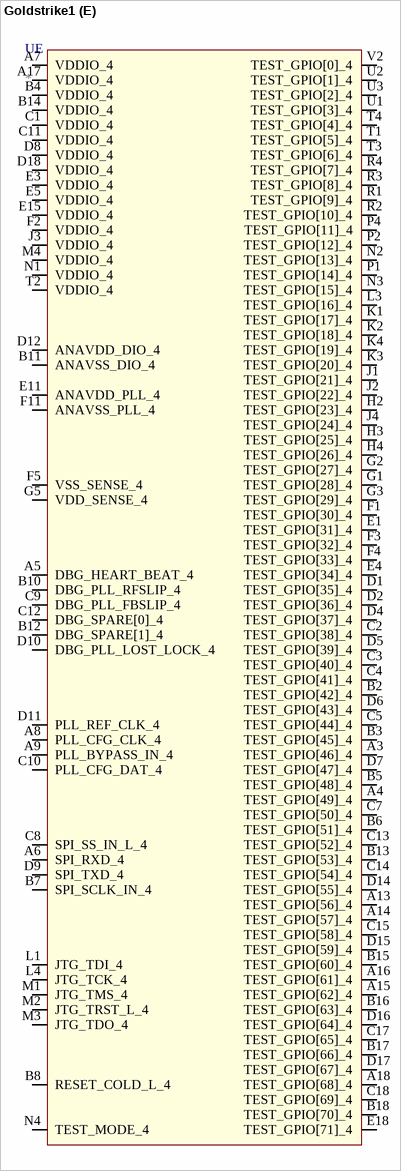
[diagram p4: symbol Goldstrike1]

## Goldstrike1
designator U
part A pins: A1 VSS, A2 VSS, A10 VSS, A11 VDD_TOP_4, A12 VSS, A19 VSS, A29 VSS, A35 VSS, A36 VSS, AA3 VSS, AA5 VSS, AA6 VDD_TOP_1, AA7 VSS, AA8 VDD_TOP_1, AA9 VSS, AA10 VDD_TOP_1, AA11 VSS, AA12 VDD_TOP_1, AA13 VSS, AA14 VDD_TOP_1, AA15 VSS, AA16 VDD_TOP_1, AA17 VSS, AA18 VDD_TOP_1, AA19 VDD_TOP_2, AA20 VSS, AA21 VDD_TOP_2, AA22 VSS, AA23 VDD_TOP_2, AA24 VSS, AA25 VDD_TOP_2, AA26 VSS, AA27 VDD_TOP_2, AA28 VSS, AA29 VDD_TOP_2, AA30 VSS, AA31 VDD_TOP_2, AA32 VSS, AB6 VSS, AB7 VDD_TOP_1, AB8 VSS, AB9 VDD_TOP_1, AB10 VSS, AB11 VDD_TOP_1, AB12 VSS, AB13 VDD_TOP_1, AB14 VSS, AB15 VDD_TOP_1, AB16 VSS, AB17 VDD_TOP_1, AB18 VSS, AB19 VSS, AB20 VDD_TOP_2, AB21 VSS, AB22 VDD_TOP_2, AB23 VSS, AB24 VDD_TOP_2, AB25 VSS, AB26 VDD_TOP_2, AB27 VSS, AB28 VDD_TOP_2, AB29 VSS, AB30 VDD_TOP_2, AB31 VSS, AB32 VDD_TOP_2, AC5 VSS, AC6 VDD_TOP_1, AC7 VSS, AC8 VDD_TOP_1, AC9 VSS, AC10 VDD_TOP_1, AC11 VSS, AC12 VDD_TOP_1, AC13 VSS, AC14 VDD_TOP_1, AC15 VSS, AC16 VDD_TOP_1, AC17 VSS, AC18 VDD_TOP_1, AC19 VDD_TOP_2, AC20 VSS, AC21 VDD_TOP_2, AC22 VSS, AC23 VDD_TOP_2, AC24 VSS, AC25 VDD_TOP_2, AC26 VSS, AC27 VDD_TOP_2, AC28 VSS, AC29 VDD_TOP_2, AC30 VSS, AC31 VDD_TOP_2, AC32 VSS, AC34 VSS, AD4 VSS, AD5 VDD_TOP_1, AD6 VSS, AD7 VDD_TOP_1, AD8 VSS, AD9 VDD_TOP_1, AD10 VSS, AD11 VDD_TOP_1, AD12 VSS, AD13 VDD_TOP_1, AD14 VSS, AD15 VDD_TOP_1, AD16 VSS, AD17 VDD_TOP_1, AD18 VSS, AD19 VSS, AD20 VDD_TOP_2, AD21 VSS, AD22 VDD_TOP_2, AD23 VSS, AD24 VDD_TOP_2, AD25 VSS, AD26 VDD_TOP_2, AD27 VSS, AD28 VDD_TOP_2, AD29 VSS, AD30 VDD_TOP_2, AD31 VSS, AD32 VDD_TOP_2, AE1 VSS, AE5 VSS, AE6 VDD_TOP_1, AE7 VSS, AE8 VDD_TOP_1, AE9 VSS, AE10 VDD_TOP_1, AE11 VSS, AE12 VDD_TOP_1, AE13 VSS, AE14 VDD_TOP_1, AE15 VSS, AE16 VDD_TOP_1, AE17 VSS, AE18 VDD_TOP_1, AE19 VDD_TOP_2, AE20 VSS, AE21 VDD_TOP_2, AE22 VSS, AE23 VDD_TOP_2, AE24 VSS, AE25 VDD_TOP_2, AE26 VSS, AE27 VDD_TOP_2, AE28 VSS, AE29 VDD_TOP_2, AE30 VSS, AE31 VDD_TOP_2, AE32 VSS, AF1 VDD_TOP_1, AF7 VDD_TOP_1, AF8 VSS, AF9 VDD_TOP_1, AF10 VSS, AF11 VDD_TOP_1, AF12 VSS, AF13 VDD_TOP_1, AF14 VSS, AF15 VDD_TOP_1, AF16 VSS, AF17 VDD_TOP_1, AF18 VSS, AF19 VSS, AF20 VDD_TOP_2, AF21 VSS, AF22 VDD_TOP_2, AF23 VSS, AF24 VDD_TOP_2, AF25 VSS, AF26 VDD_TOP_2, AF27 VSS, AF28 VDD_TOP_2, AF29 VSS, AF30 VDD_TOP_2, AF31 VSS, AF32 VDD_TOP_2, AF35 VSS, AG1 VSS, AG5 VSS, AG6 VDD_TOP_1, AG7 VSS, AG8 VDD_TOP_1, AG9 VSS, AG10 VDD_TOP_1, AG11 VSS, AG12 VDD_TOP_1, AG13 VSS, AG14 VDD_TOP_1, AG15 VSS, AG16 VDD_TOP_1, AG17 VSS, AG18 VDD_TOP_1, AG19 VDD_TOP_2, AG20 VSS, AG21 VDD_TOP_2, AG22 VSS, AG23 VDD_TOP_2, AG24 VSS, AG25 VDD_TOP_2, AG26 VSS, AG27 VDD_TOP_2, AG28 VSS, AG29 VDD_TOP_2, AG30 VSS, AG31 VDD_TOP_2, AG32 VSS, AH2 VSS, AH5 VDD_TOP_1, AH6 VSS, AH7 VDD_TOP_1, AH8 VSS, AH9 VDD_TOP_1, AH10 VSS, AH11 VDD_TOP_1, AH12 VSS, AH13 VDD_TOP_1, AH14 VSS, AH15 VDD_TOP_1, AH16 VSS, AH17 VDD_TOP_1, AH18 VSS, AH19 VSS, AH20 VDD_TOP_2, AH21 VSS, AH22 VDD_TOP_2, AH23 VSS, AH24 VDD_TOP_2, AH25 VSS, AH26 VDD_TOP_2, AH27 VSS, AH28 VDD_TOP_2, AH29 VSS, AH30 VDD_TOP_2, AH31 VSS, AH32 VDD_TOP_2, AJ5 VSS, AJ6 VDD_TOP_1, AJ7 VSS, AJ8 VDD_TOP_1, AJ9 VSS, AJ10 VDD_TOP_1, AJ11 VSS, AJ12 VDD_TOP_1, AJ13 VSS, AJ14 VDD_TOP_1, AJ15 VSS, AJ16 VDD_TOP_1, AJ17 VSS, AJ18 VDD_TOP_1, AJ19 VDD_TOP_2, AJ20 VSS, AJ21 VDD_TOP_2, AJ22 VSS, AJ23 VDD_TOP_2, AJ24 VSS, AJ25 VDD_TOP_2, AJ26 VSS, AJ27 VDD_TOP_2, AJ28 VSS, AJ29 VDD_TOP_2, AJ30 VSS, AJ31 VDD_TOP_2, AJ32 VSS, AJ36 VSS, AK5 VDD_TOP_1, AK6 VSS, AK7 VDD_TOP_1, AK8 VSS, AK9 VDD_TOP_1, AK10 VSS, AK11 VDD_TOP_1, AK12 VSS, AK13 VDD_TOP_1, AK14 VSS, AK15 VDD_TOP_1, AK16 VSS, AK17 VDD_TOP_1, AK18 VSS, AK19 VSS, AK20 VDD_TOP_2, AK21 VSS, AK22 VDD_TOP_2, AK23 VSS, AK24 VDD_TOP_2, AK25 VSS, AK26 VDD_TOP_2, AK27 VSS, AK28 VDD_TOP_2, AK29 VSS, AK30 VDD_TOP_2, AK31 VSS, AK33 VSS, AL3 VSS, AL5 VSS, AL6 VDD_TOP_1, AL7 VSS, AL8 VDD_TOP_1, AL9 VSS, AL10 VDD_TOP_1, AL11 VSS, AL12 VDD_TOP_1, AL13 VSS, AL14 VDD_TOP_1, AL15 VSS, AL16 VDD_TOP_1, AL17 VSS, AL18 VDD_TOP_1, AL19 VDD_TOP_2, AL20 VSS, AL21 VDD_TOP_2, AL22 VSS, AL23 VDD_TOP_2, AL24 VSS, AL25 VDD_TOP_2, AL27 VDD_TOP_2, AL28 VSS, AL29 VDD_TOP_2, AL30 VSS, AL31 VDD_TOP_2, AM8 VSS, AM9 VDD_TOP_1, AM10 VSS, AM11 VDD_TOP_1, AM12 VSS, AM13 VDD_TOP_1, AM14 VSS, AM15 VDD_TOP_1, AM16 VSS, AM17 VDD_TOP_1, AM18 VSS, AM20 VSS, AM21 VSS, AM23 VSS, AM24 VDD_TOP_2, AM25 VSS, AM27 VSS, AM28 VDD_TOP_2, AM29 VSS, AM30 VDD_TOP_2, AM31 VSS, AM35 VSS, AN7 VSS, AN17 VSS, AN18 VDD_TOP_1, AN24 VSS, AN34 VSS, AP4 VSS, AP14 VSS, AP18 VSS, AP21 VSS, AP31 VSS, AR1 VSS, AR5 VSS, AR11 VSS, AR28 VSS, AR36 VSS, AT1 VSS, AT2 VSS, AT8 VSS, AT18 VSS, AT25 VSS, AT26 VDD_TOP_2, AT27 VSS, AT35 VSS, AT36 VSS, B1 VSS, B9 VSS, B26 VSS, B32 VSS, B36 VSS, C6 VSS, C16 VSS, C19 VSS, C23 VSS, C33 VSS, D3 VSS, D13 VSS, D19 VDD_TOP_3, D20 VSS, D30 VSS, E2 VSS, E6 VSS, E7 VDD_TOP_4, E8 VSS, E9 VDD_TOP_4, E10 VSS, E12 VSS, E13 VDD_TOP_4, E14 VSS, E16 VSS, E17 VSS, E19 VSS, E20 VDD_TOP_3, E21 VSS, E22 VDD_TOP_3, E23 VSS, E24 VDD_TOP_3, E25 VSS, E26 VDD_TOP_3, E27 VSS, E28 VDD_TOP_3, E29 VSS, F6 VDD_TOP_4, F7 VSS, F8 VDD_TOP_4, F9 VSS, F10 VDD_TOP_4, F12 VDD_TOP_4, F13 VSS, F14 VDD_TOP_4, F15 VSS, F16 VDD_TOP_4, F17 VSS, F18 VDD_TOP_4, F19 VDD_TOP_3, F20 VSS, F21 VDD_TOP_3, F22 VSS, F23 VDD_TOP_3, F24 VSS, F25 VDD_TOP_3, F26 VSS, F27 VDD_TOP_3, F28 VSS, F29 VDD_TOP_3, F30 VSS, F31 VDD_TOP_3, F32 VSS, F34 VSS, G4 VSS, G6 VSS, G7 VDD_TOP_4, G8 VSS, G9 VDD_TOP_4, G10 VSS, G11 VDD_TOP_4, G12 VSS, G13 VDD_TOP_4, G14 VSS, G15 VDD_TOP_4, G16 VSS, G17 VDD_TOP_4, G18 VSS, G19 VSS, G20 VDD_TOP_3, G21 VSS, G22 VDD_TOP_3, G23 VSS, G24 VDD_TOP_3, G25 VSS, G26 VDD_TOP_3, G27 VSS, G28 VDD_TOP_3, G29 VSS, G30 VDD_TOP_3, G31 VSS, G32 VDD_TOP_3, H1 VSS, H5 VSS, H6 VDD_TOP_4, H7 VSS, H8 VDD_TOP_4, H9 VSS, H10 VDD_TOP_4, H11 VSS, H12 VDD_TOP_4, H13 VSS, H14 VDD_TOP_4, H15 VSS, H16 VDD_TOP_4, H17 VSS, H18 VDD_TOP_4, H19 VDD_TOP_3, H20 VSS, H21 VDD_TOP_3, H22 VSS, H23 VDD_TOP_3, H24 VSS, H25 VDD_TOP_3, H26 VSS, H27 VDD_TOP_3, H28 VSS, H29 VDD_TOP_3, H30 VSS, H31 VDD_TOP_3, H32 VSS, J5 VDD_TOP_4, J6 VSS, J7 VDD_TOP_4, J8 VSS, J9 VDD_TOP_4, J10 VSS, J11 VDD_TOP_4, J12 VSS, J13 VDD_TOP_4, J14 VSS, J15 VDD_TOP_4, J16 VSS, J17 VDD_TOP_4, J18 VSS, J19 VSS, J20 VDD_TOP_3, J21 VSS, J22 VDD_TOP_3, J23 VSS, J24 VDD_TOP_3, J25 VSS, J26 VDD_TOP_3, J27 VSS, J28 VDD_TOP_3, J29 VSS, J30 VDD_TOP_3, J31 VSS, J32 VDD_TOP_3, J35 VSS, K5 VSS, K6 VDD_TOP_4, K7 VSS, K8 VDD_TOP_4, K9 VSS, K10 VDD_TOP_4, K11 VSS, K12 VDD_TOP_4, K13 VSS, K14 VDD_TOP_4, K15 VSS, K16 VDD_TOP_4, K17 VSS, K18 VDD_TOP_4, K19 VDD_TOP_3, K20 VSS, K21 VDD_TOP_3, K22 VSS, K23 VDD_TOP_3, K24 VSS, K25 VDD_TOP_3, K26 VSS, K27 VDD_TOP_3, K28 VSS, K29 VDD_TOP_3, K30 VSS, K31 VDD_TOP_3, K32 VSS, K36 VSS, L2 VSS, L5 VDD_TOP_4, L6 VSS, L7 VDD_TOP_4, L8 VSS, L9 VDD_TOP_4, L10 VSS, L11 VDD_TOP_4, L12 VSS, L13 VDD_TOP_4, L14 VSS, L15 VDD_TOP_4, L16 VSS, L17 VDD_TOP_4, L18 VSS, L19 VSS, L20 VDD_TOP_3, L21 VSS, L22 VDD_TOP_3, L23 VSS, L24 VDD_TOP_3, L25 VSS, L26 VDD_TOP_3, L27 VSS, L28 VDD_TOP_3, L29 VSS, L30 VDD_TOP_3, L36 VDD_TOP_3, M5 VSS, M6 VDD_TOP_4, M7 VSS, M8 VDD_TOP_4, M9 VSS, M10 VDD_TOP_4, M11 VSS, M12 VDD_TOP_4, M13 VSS, M14 VDD_TOP_4, M15 VSS, M16 VDD_TOP_4, M17 VSS, M18 VDD_TOP_4, M19 VDD_TOP_3, M20 VSS, M21 VDD_TOP_3, M22 VSS, M23 VDD_TOP_3, M24 VSS, M25 VDD_TOP_3, M26 VSS, M27 VDD_TOP_3, M28 VSS, M29 VDD_TOP_3, M30 VSS, M31 VDD_TOP_3, M32 VSS, M36 VSS, N5 VDD_TOP_4, N6 VSS, N7 VDD_TOP_4, N8 VSS, N9 VDD_TOP_4, N10 VSS, N11 VDD_TOP_4, N12 VSS, N13 VDD_TOP_4, N14 VSS, N15 VDD_TOP_4, N16 VSS, N17 VDD_TOP_4, N18 VSS, N19 VSS, N20 VDD_TOP_3, N21 VSS, N22 VDD_TOP_3, N23 VSS, N24 VDD_TOP_3, N25 VSS, N26 VDD_TOP_3, N27 VSS, N28 VDD_TOP_3, N29 VSS, N30 VDD_TOP_3, N31 VSS, N32 VDD_TOP_3, N33 VSS, P3 VSS, P5 VSS, P6 VDD_TOP_4, P7 VSS, P8 VDD_TOP_4, P9 VSS, P10 VDD_TOP_4, P11 VSS, P12 VDD_TOP_4, P13 VSS, P14 VDD_TOP_4, P15 VSS, P16 VDD_TOP_4, P17 VSS, P18 VDD_TOP_4, P19 VDD_TOP_3, P20 VSS, P21 VDD_TOP_3, P22 VSS, P23 VDD_TOP_3, P24 VSS, P25 VDD_TOP_3, P26 VSS, P27 VDD_TOP_3, P28 VSS, P29 VDD_TOP_3, P30 VSS, P31 VDD_TOP_3, P32 VSS, R5 VDD_TOP_4, R6 VSS, R7 VDD_TOP_4, R8 VSS, R9 VDD_TOP_4, R10 VSS, R11 VDD_TOP_4, R12 VSS, R13 VDD_TOP_4, R14 VSS, R15 VDD_TOP_4, R16 VSS, R17 VDD_TOP_4, R18 VSS, R19 VSS, R20 VDD_TOP_3, R21 VSS, R22 VDD_TOP_3, R23 VSS, R24 VDD_TOP_3, R25 VSS, R26 VDD_TOP_3, R27 VSS, R28 VDD_TOP_3, R29 VSS, R30 VDD_TOP_3, R31 VSS, T5 VSS, T6 VDD_TOP_4, T7 VSS, T8 VDD_TOP_4, T9 VSS, T10 VDD_TOP_4, T11 VSS, T12 VDD_TOP_4, T13 VSS, T14 VDD_TOP_4, T15 VSS, T16 VDD_TOP_4, T17 VSS, T18 VDD_TOP_4, T19 VDD_TOP_3, T20 VSS, T21 VDD_TOP_3, T22 VSS, T23 VDD_TOP_3, T24 VSS, T25 VDD_TOP_3, T26 VSS, T27 VDD_TOP_3, T28 VSS, T29 VDD_TOP_3, T30 VSS, T31 VDD_TOP_3, T32 VSS, T34 VSS, U4 VSS, U5 VDD_TOP_4, U6 VSS, U7 VDD_TOP_4, U8 VSS, U9 VDD_TOP_4, U10 VSS, U11 VDD_TOP_4, U12 VSS, U13 VDD_TOP_4, U14 VSS, U15 VDD_TOP_4, U16 VSS, U17 VDD_TOP_4, U18 VSS, U19 VSS, U20 VDD_TOP_3, U21 VSS, U22 VDD_TOP_3, U23 VSS, U24 VDD_TOP_3, U25 VSS, U26 VDD_TOP_3, U27 VSS, U28 VDD_TOP_3, U29 VSS, U30 VDD_TOP_3, U31 VSS, U32 VSS, V1 VSS, V3 VSS, V4 VDD_TOP_4, V5 VSS, V6 VDD_TOP_4, V7 VSS, V8 VDD_TOP_4, V9 VSS, V10 VDD_TOP_4, V11 VSS, V12 VDD_TOP_4, V13 VSS, V14 VDD_TOP_4, V15 VSS, V16 VDD_TOP_4, V17 VSS, V18 VDD_TOP_4, V19 VDD_TOP_3, V20 VSS, V21 VDD_TOP_3, V22 VSS, V23 VDD_TOP_3, V24 VSS, V25 VDD_TOP_3, V26 VSS, V27 VDD_TOP_3, V28 VSS, V29 VDD_TOP_3, V30 VSS, V31 VDD_TOP_3, W6 VDD_TOP_1, W7 VSS, W8 VDD_TOP_1, W9 VSS, W10 VDD_TOP_1, W11 VSS, W12 VDD_TOP_1, W13 VSS, W14 VDD_TOP_1, W15 VSS, W16 VDD_TOP_1, W17 VSS, W18 VDD_TOP_1, W19 VDD_TOP_2, W20 VSS, W21 VDD_TOP_2, W22 VSS, W23 VDD_TOP_2, W24 VSS, W25 VDD_TOP_2, W26 VSS, W27 VDD_TOP_2, W28 VSS, W29 VDD_TOP_2, W30 VSS, W31 VDD_TOP_2, W32 VSS, W33 VDD_TOP_2, W34 VSS, W36 VSS, Y5 VSS, Y6 VSS, Y7 VDD_TOP_1, Y8 VSS, Y9 VDD_TOP_1, Y10 VSS, Y11 VDD_TOP_1, Y12 VSS, Y13 VDD_TOP_1, Y14 VSS, Y15 VDD_TOP_1, Y16 VSS, Y17 VDD_TOP_1, Y18 VSS, Y19 VSS, Y20 VDD_TOP_2, Y21 VSS, Y22 VDD_TOP_2, Y23 VSS, Y24 VDD_TOP_2, Y25 VSS, Y26 VDD_TOP_2, Y27 VSS, Y28 VDD_TOP_2, Y29 VSS, Y30 VDD_TOP_2, Y31 VSS, Y32 VDD_TOP_2, Y33 VSS
part B pins: AA1 TEST_GPIO[61]_1, AA2 TEST_GPIO[63]_1, AA4 TEST_GPIO[64]_1, AB1 TEST_GPIO[62]_1, AB2 TEST_GPIO[60]_1, AB3 TEST_GPIO[58]_1, AB4 TEST_GPIO[59]_1, AB5 VDDIO_1, AC1 TEST_GPIO[57]_1, AC2 VDDIO_1, AC3 TEST_GPIO[54]_1, AC4 TEST_GPIO[55]_1, AD1 TEST_GPIO[56]_1, AD2 TEST_GPIO[53]_1, AD3 TEST_GPIO[52]_1, AE2 DBG_SPARE[1]_1, AE3 DBG_SPARE[0]_1, AE4 ANAVDD_DIO_1, AF2 ANAVSS_DIO_1, AF3 VDDIO_1, AF4 PLL_REF_CLK_1, AF5 ANAVDD_PLL_1, AF6 ANAVSS_PLL_1, AG2 DBG_PLL_RFSLIP_1, AG3 PLL_CFG_DAT_1, AG4 DBG_PLL_LOST_LOCK_1, AH1 PLL_BYPASS_IN_1, AH3 DBG_PLL_FBSLIP_1, AH4 SPI_TXD_1, AJ1 PLL_CFG_CLK_1, AJ2 RESET_COLD_L_1, AJ3 SPI_SS_IN_L_1, AJ4 VDDIO_1, AK1 VDDIO_1, AK2 SPI_SCLK_IN_1, AK3 TEST_GPIO[50]_1, AK4 TEST_GPIO[47]_1, AL1 SPI_RXD_1, AL2 TEST_GPIO[51]_1, AL4 TEST_GPIO[43]_1, AM1 DBG_HEART_BEAT_1, AM2 TEST_GPIO[48]_1, AM3 TEST_GPIO[44]_1, AM4 TEST_GPIO[39]_1, AM5 VDDIO_1, AM6 VSS_SENSE_1, AM7 VDD_SENSE_1, AN1 TEST_GPIO[49]_1, AN2 VDDIO_1, AN3 TEST_GPIO[41]_1, AN4 TEST_GPIO[37]_1, AN5 TEST_GPIO[34]_1, AN6 TEST_GPIO[33]_1, AN8 TEST_GPIO[26]_1, AN9 TEST_GPIO[24]_1, AN10 TEST_GPIO[19]_1, AN11 JTG_TCK_1, AN12 VDDIO_1, AN13 TEST_MODE_1, AN14 TEST_GPIO[11]_1, AN15 TEST_GPIO[7]_1, AN16 TEST_GPIO[4]_1, AP1 TEST_GPIO[46]_1, AP2 TEST_GPIO[45]_1, AP3 TEST_GPIO[40]_1, AP5 VDDIO_1, AP6 TEST_GPIO[32]_1, AP7 TEST_GPIO[29]_1, AP8 TEST_GPIO[25]_1, AP9 VDDIO_1, AP10 TEST_GPIO[20]_1, AP11 TEST_GPIO[16]_1, AP12 JTG_TDO_1, AP13 TEST_GPIO[15]_1, AP15 TEST_GPIO[8]_1, AP16 TEST_GPIO[6]_1, AP17 TEST_GPIO[2]_1, AR2 TEST_GPIO[42]_1, AR3 TEST_GPIO[38]_1, AR4 TEST_GPIO[36]_1, AR6 VDDIO_1, AR7 TEST_GPIO[27]_1, AR8 TEST_GPIO[23]_1, AR9 TEST_GPIO[22]_1, AR10 TEST_GPIO[18]_1, AR12 JTG_TRST_L_1, AR13 TEST_GPIO[13]_1, AR14 TEST_GPIO[12]_1, AR15 TEST_GPIO[10]_1, AR16 VDDIO_1, AR17 TEST_GPIO[1]_1, AR18 TEST_GPIO[0]_1, AT3 VDDIO_1, AT4 TEST_GPIO[35]_1, AT5 TEST_GPIO[31]_1, AT6 TEST_GPIO[30]_1, AT7 TEST_GPIO[28]_1, AT9 TEST_GPIO[21]_1, AT10 TEST_GPIO[17]_1, AT11 JTG_TDI_1, AT12 JTG_TMS_1, AT13 VDDIO_1, AT14 TEST_GPIO[14]_1, AT15 TEST_GPIO[9]_1, AT16 TEST_GPIO[5]_1, AT17 TEST_GPIO[3]_1, W1 TEST_GPIO[68]_1, W2 TEST_GPIO[70]_1, W3 TEST_GPIO[69]_1, W4 VDDIO_1, W5 TEST_GPIO[71]_1, Y1 VDDIO_1, Y2 TEST_GPIO[66]_1, Y3 TEST_GPIO[65]_1, Y4 TEST_GPIO[67]_1
part C pins: AA33 TEST_GPIO[4]_2, AA34 TEST_GPIO[6]_2, AA35 VDDIO_2, AA36 TEST_GPIO[5]_2, AB33 TEST_GPIO[7]_2, AB34 TEST_GPIO[8]_2, AB35 TEST_GPIO[10]_2, AB36 TEST_GPIO[9]_2, AC33 TEST_GPIO[11]_2, AC35 TEST_GPIO[12]_2, AC36 TEST_GPIO[14]_2, AD33 TEST_MODE_2, AD34 TEST_GPIO[15]_2, AD35 TEST_GPIO[13]_2, AD36 VDDIO_2, AE33 VDDIO_2, AE34 JTG_TDO_2, AE35 JTG_TRST_L_2, AE36 JTG_TMS_2, AF33 JTG_TCK_2, AF34 TEST_GPIO[16]_2, AF36 JTG_TDI_2, AG33 TEST_GPIO[19]_2, AG34 TEST_GPIO[20]_2, AG35 TEST_GPIO[18]_2, AG36 TEST_GPIO[17]_2, AH33 TEST_GPIO[24]_2, AH34 VDDIO_2, AH35 TEST_GPIO[22]_2, AH36 TEST_GPIO[21]_2, AJ33 TEST_GPIO[26]_2, AJ34 TEST_GPIO[25]_2, AJ35 TEST_GPIO[23]_2, AK32 VDD_SENSE_2, AK34 TEST_GPIO[29]_2, AK35 TEST_GPIO[27]_2, AK36 TEST_GPIO[28]_2, AL26 ANAVSS_PLL_2, AL32 VSS_SENSE_2, AL33 TEST_GPIO[33]_2, AL34 TEST_GPIO[32]_2, AL35 VDDIO_2, AL36 TEST_GPIO[30]_2, AM19 TEST_GPIO[71]_2, AM22 VDDIO_2, AM26 ANAVDD_PLL_2, AM32 VDDIO_2, AM33 TEST_GPIO[34]_2, AM34 VDDIO_2, AM36 TEST_GPIO[31]_2, AN19 VDDIO_2, AN20 TEST_GPIO[67]_2, AN21 TEST_GPIO[64]_2, AN22 TEST_GPIO[59]_2, AN23 TEST_GPIO[55]_2, AN25 ANAVDD_DIO_2, AN26 PLL_REF_CLK_2, AN27 DBG_PLL_LOST_LOCK_2, AN28 SPI_TXD_2, AN29 VDDIO_2, AN30 TEST_GPIO[47]_2, AN31 TEST_GPIO[43]_2, AN32 TEST_GPIO[39]_2, AN33 TEST_GPIO[37]_2, AN35 TEST_GPIO[36]_2, AN36 TEST_GPIO[35]_2, AP19 TEST_GPIO[69]_2, AP20 TEST_GPIO[65]_2, AP22 TEST_GPIO[58]_2, AP23 TEST_GPIO[54]_2, AP24 TEST_GPIO[52]_2, AP25 DBG_SPARE[0]_2, AP26 VDDIO_2, AP27 PLL_CFG_DAT_2, AP28 DBG_PLL_FBSLIP_2, AP29 SPI_SS_IN_L_2, AP30 TEST_GPIO[50]_2, AP32 TEST_GPIO[44]_2, AP33 TEST_GPIO[41]_2, AP34 TEST_GPIO[40]_2, AP35 TEST_GPIO[38]_2, AP36 VDDIO_2, AR19 TEST_GPIO[70]_2, AR20 TEST_GPIO[66]_2, AR21 TEST_GPIO[63]_2, AR22 TEST_GPIO[60]_2, AR23 VDDIO_2, AR24 TEST_GPIO[53]_2, AR25 DBG_SPARE[1]_2, AR26 ANAVSS_DIO_2, AR27 DBG_PLL_RFSLIP_2, AR29 RESET_COLD_L_2, AR30 SPI_SCLK_IN_2, AR31 TEST_GPIO[51]_2, AR32 TEST_GPIO[48]_2, AR33 VDDIO_2, AR34 TEST_GPIO[45]_2, AR35 TEST_GPIO[42]_2, AT19 TEST_GPIO[68]_2, AT20 VDDIO_2, AT21 TEST_GPIO[61]_2, AT22 TEST_GPIO[62]_2, AT23 TEST_GPIO[57]_2, AT24 TEST_GPIO[56]_2, AT28 PLL_BYPASS_IN_2, AT29 PLL_CFG_CLK_2, AT30 VDDIO_2, AT31 SPI_RXD_2, AT32 DBG_HEART_BEAT_2, AT33 TEST_GPIO[49]_2, AT34 TEST_GPIO[46]_2, W35 TEST_GPIO[0]_2, Y34 TEST_GPIO[2]_2, Y35 TEST_GPIO[1]_2, Y36 TEST_GPIO[3]_2
part D pins: A20 TEST_GPIO[3]_3, A21 TEST_GPIO[5]_3, A22 TEST_GPIO[9]_3, A23 TEST_GPIO[14]_3, A24 VDDIO_3, A25 JTG_TMS_3, A26 JTG_TDI_3, A27 TEST_GPIO[17]_3, A28 TEST_GPIO[21]_3, A30 TEST_GPIO[28]_3, A31 TEST_GPIO[30]_3, A32 TEST_GPIO[31]_3, A33 TEST_GPIO[35]_3, A34 VDDIO_3, B19 TEST_GPIO[0]_3, B20 TEST_GPIO[1]_3, B21 VDDIO_3, B22 TEST_GPIO[10]_3, B23 TEST_GPIO[12]_3, B24 TEST_GPIO[13]_3, B25 JTG_TRST_L_3, B27 TEST_GPIO[18]_3, B28 TEST_GPIO[22]_3, B29 TEST_GPIO[23]_3, B30 TEST_GPIO[27]_3, B31 VDDIO_3, B33 TEST_GPIO[36]_3, B34 TEST_GPIO[38]_3, B35 TEST_GPIO[42]_3, C20 TEST_GPIO[2]_3, C21 TEST_GPIO[6]_3, C22 TEST_GPIO[8]_3, C24 TEST_GPIO[15]_3, C25 JTG_TDO_3, C26 TEST_GPIO[16]_3, C27 TEST_GPIO[20]_3, C28 VDDIO_3, C29 TEST_GPIO[25]_3, C30 TEST_GPIO[29]_3, C31 TEST_GPIO[32]_3, C32 VDDIO_3, C34 TEST_GPIO[40]_3, C35 TEST_GPIO[45]_3, C36 TEST_GPIO[46]_3, D21 TEST_GPIO[4]_3, D22 TEST_GPIO[7]_3, D23 TEST_GPIO[11]_3, D24 TEST_MODE_3, D25 VDDIO_3, D26 JTG_TCK_3, D27 TEST_GPIO[19]_3, D28 TEST_GPIO[24]_3, D29 TEST_GPIO[26]_3, D31 TEST_GPIO[33]_3, D32 TEST_GPIO[34]_3, D33 TEST_GPIO[37]_3, D34 TEST_GPIO[41]_3, D35 VDDIO_3, D36 TEST_GPIO[49]_3, E30 VDD_SENSE_3, E31 VSS_SENSE_3, E32 VDDIO_3, E33 TEST_GPIO[39]_3, E34 TEST_GPIO[44]_3, E35 TEST_GPIO[48]_3, E36 DBG_HEART_BEAT_3, F33 TEST_GPIO[43]_3, F35 TEST_GPIO[51]_3, F36 SPI_RXD_3, G33 TEST_GPIO[47]_3, G34 TEST_GPIO[50]_3, G35 SPI_SCLK_IN_3, G36 VDDIO_3, H33 VDDIO_3, H34 SPI_SS_IN_L_3, H35 RESET_COLD_L_3, H36 PLL_CFG_CLK_3, J33 SPI_TXD_3, J34 DBG_PLL_FBSLIP_3, J36 PLL_BYPASS_IN_3, K33 DBG_PLL_LOST_LOCK_3, K34 PLL_CFG_DAT_3, K35 DBG_PLL_RFSLIP_3, L31 ANAVSS_PLL_3, L32 ANAVDD_PLL_3, L33 PLL_REF_CLK_3, L34 VDDIO_3, L35 ANAVSS_DIO_3, M33 ANAVDD_DIO_3, M34 DBG_SPARE[0]_3, M35 DBG_SPARE[1]_3, N34 TEST_GPIO[52]_3, N35 TEST_GPIO[53]_3, N36 TEST_GPIO[56]_3, P33 TEST_GPIO[55]_3, P34 TEST_GPIO[54]_3, P35 VDDIO_3, P36 TEST_GPIO[57]_3, R32 VDDIO_3, R33 TEST_GPIO[59]_3, R34 TEST_GPIO[58]_3, R35 TEST_GPIO[60]_3, R36 TEST_GPIO[62]_3, T33 TEST_GPIO[64]_3, T35 TEST_GPIO[63]_3, T36 TEST_GPIO[61]_3, U33 TEST_GPIO[67]_3, U34 TEST_GPIO[65]_3, U35 TEST_GPIO[66]_3, U36 VDDIO_3, V32 TEST_GPIO[71]_3, V33 VDDIO_3, V34 TEST_GPIO[69]_3, V35 TEST_GPIO[70]_3, V36 TEST_GPIO[68]_3
part E pins: A3 TEST_GPIO[46]_4, A4 TEST_GPIO[49]_4, A5 DBG_HEART_BEAT_4, A6 SPI_RXD_4, A7 VDDIO_4, A8 PLL_CFG_CLK_4, A9 PLL_BYPASS_IN_4, A13 TEST_GPIO[56]_4, A14 TEST_GPIO[57]_4, A15 TEST_GPIO[62]_4, A16 TEST_GPIO[61]_4, A17 VDDIO_4, A18 TEST_GPIO[68]_4, B2 TEST_GPIO[42]_4, B3 TEST_GPIO[45]_4, B4 VDDIO_4, B5 TEST_GPIO[48]_4, B6 TEST_GPIO[51]_4, B7 SPI_SCLK_IN_4, B8 RESET_COLD_L_4, B10 DBG_PLL_RFSLIP_4, B11 ANAVSS_DIO_4, B12 DBG_SPARE[1]_4, B13 TEST_GPIO[53]_4, B14 VDDIO_4, B15 TEST_GPIO[60]_4, B16 TEST_GPIO[63]_4, B17 TEST_GPIO[66]_4, B18 TEST_GPIO[70]_4, C1 VDDIO_4, C2 TEST_GPIO[38]_4, C3 TEST_GPIO[40]_4, C4 TEST_GPIO[41]_4, C5 TEST_GPIO[44]_4, C7 TEST_GPIO[50]_4, C8 SPI_SS_IN_L_4, C9 DBG_PLL_FBSLIP_4, C10 PLL_CFG_DAT_4, C11 VDDIO_4, C12 DBG_SPARE[0]_4, C13 TEST_GPIO[52]_4, C14 TEST_GPIO[54]_4, C15 TEST_GPIO[58]_4, C17 TEST_GPIO[65]_4, C18 TEST_GPIO[69]_4, D1 TEST_GPIO[35]_4, D2 TEST_GPIO[36]_4, D4 TEST_GPIO[37]_4, D5 TEST_GPIO[39]_4, D6 TEST_GPIO[43]_4, D7 TEST_GPIO[47]_4, D8 VDDIO_4, D9 SPI_TXD_4, D10 DBG_PLL_LOST_LOCK_4, D11 PLL_REF_CLK_4, D12 ANAVDD_DIO_4, D14 TEST_GPIO[55]_4, D15 TEST_GPIO[59]_4, D16 TEST_GPIO[64]_4, D17 TEST_GPIO[67]_4, D18 VDDIO_4, E1 TEST_GPIO[31]_4, E3 VDDIO_4, E4 TEST_GPIO[34]_4, E5 VDDIO_4, E11 ANAVDD_PLL_4, E15 VDDIO_4, E18 TEST_GPIO[71]_4, F1 TEST_GPIO[30]_4, F2 VDDIO_4, F3 TEST_GPIO[32]_4, F4 TEST_GPIO[33]_4, F5 VSS_SENSE_4, F11 ANAVSS_PLL_4, G1 TEST_GPIO[28]_4, G2 TEST_GPIO[27]_4, G3 TEST_GPIO[29]_4, G5 VDD_SENSE_4, H2 TEST_GPIO[23]_4, H3 TEST_GPIO[25]_4, H4 TEST_GPIO[26]_4, J1 TEST_GPIO[21]_4, J2 TEST_GPIO[22]_4, J3 VDDIO_4, J4 TEST_GPIO[24]_4, K1 TEST_GPIO[17]_4, K2 TEST_GPIO[18]_4, K3 TEST_GPIO[20]_4, K4 TEST_GPIO[19]_4, L1 JTG_TDI_4, L3 TEST_GPIO[16]_4, L4 JTG_TCK_4, M1 JTG_TMS_4, M2 JTG_TRST_L_4, M3 JTG_TDO_4, M4 VDDIO_4, N1 VDDIO_4, N2 TEST_GPIO[13]_4, N3 TEST_GPIO[15]_4, N4 TEST_MODE_4, P1 TEST_GPIO[14]_4, P2 TEST_GPIO[12]_4, P4 TEST_GPIO[11]_4, R1 TEST_GPIO[9]_4, R2 TEST_GPIO[10]_4, R3 TEST_GPIO[8]_4, R4 TEST_GPIO[7]_4, T1 TEST_GPIO[5]_4, T2 VDDIO_4, T3 TEST_GPIO[6]_4, T4 TEST_GPIO[4]_4, U1 TEST_GPIO[3]_4, U2 TEST_GPIO[1]_4, U3 TEST_GPIO[2]_4, V2 TEST_GPIO[0]_4